# Altium footprint library ATMEGA4809-AFR.PcbLib: 2 footprints
Each footprint in its own frame and in the unit in brackets; x right, y up, seen from the top. Pads: shape width x height; smd on the part's side, far side on the other; paste and mask are expansions set on the pad; w line width, h text height; cw(c..) or ccw(c..) is an arc to the next point about the centre after c.
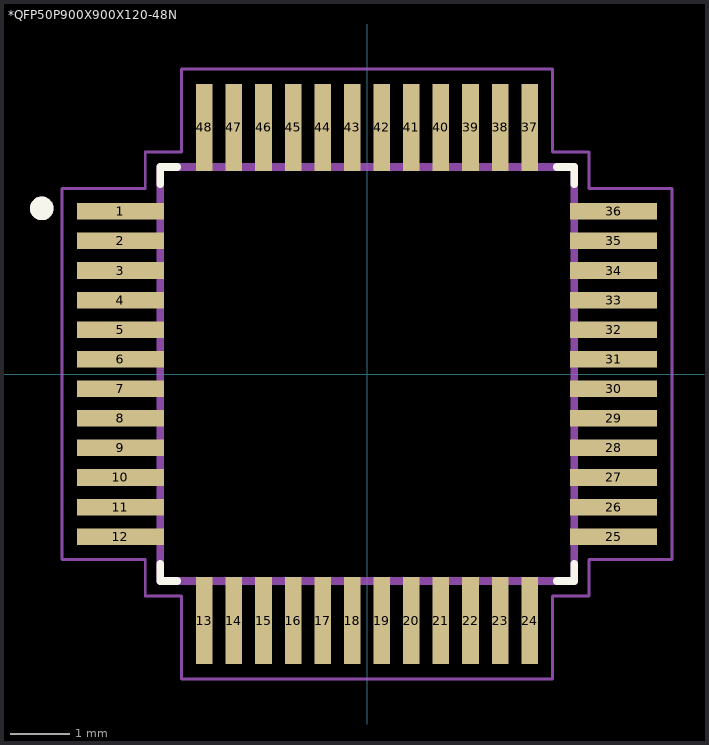
[diagram p0: the footprints below, top view; thin cyan lines are the x and y axes]

## *QFP50P900X900X120-48N [mm]
pads (48):
  rect 1.47x0.28 smd: 1(-4.17,2.75) 2(-4.17,2.25) 3(-4.17,1.75) 4(-4.17,1.25) 5(-4.17,0.75) 6(-4.17,0.25) 7(-4.17,-0.25) 8(-4.17,-0.75) 9(-4.17,-1.25) 10(-4.17,-1.75) 11(-4.17,-2.25) 12(-4.17,-2.75) 25(4.17,-2.75) 26(4.17,-2.25) 27(4.17,-1.75) 28(4.17,-1.25) 29(4.17,-0.75) 30(4.17,-0.25) 31(4.17,0.25) 32(4.17,0.75) 33(4.17,1.25) 34(4.17,1.75) 35(4.17,2.25) 36(4.17,2.75)
  rect 0.28x1.47 smd: 13(-2.75,-4.17) 14(-2.25,-4.17) 15(-1.75,-4.17) 16(-1.25,-4.17) 17(-0.75,-4.17) 18(-0.25,-4.17) 19(0.25,-4.17) 20(0.75,-4.17) 21(1.25,-4.17) 22(1.75,-4.17) 23(2.25,-4.17) 24(2.75,-4.17) 37(2.75,4.17) 38(2.25,4.17) 39(1.75,4.17) 40(1.25,4.17) 41(0.75,4.17) 42(0.25,4.17) 43(-0.25,4.17) 44(-0.75,4.17) 45(-1.25,4.17) 46(-1.75,4.17) 47(-2.25,4.17) 48(-2.75,4.17)
Top Overlay:
  circle w0.2: c-5.5,2.8 r0.1
  lines w0.127: -3.5,-3.21 -3.5,-3.5 -3.21,-3.5 ; -3.5,3.21 -3.5,3.5 -3.21,3.5 ; 3.21,-3.5 3.5,-3.5 3.5,-3.21 ; 3.21,3.5 3.5,3.5 3.5,3.21
Mechanical 4:
  circle w0.2: c-5.5,2.8 r0.1
  circle w0.2: c-5.5,2.8 r0.1
  lines w0.127: -3.5,-3.5 3.5,-3.5 ; -3.5,-3.5 -3.5,3.5 ; -3.5,-3.5 3.5,-3.5 ; -3.5,-3.5 -3.5,3.5 ; -3.5,3.5 3.5,3.5 ; -3.5,3.5 3.5,3.5 ; 3.5,-3.5 3.5,3.5 ; 3.5,-3.5 3.5,3.5
Mechanical 16:
  lines w0.05: -5.16,-3.14 -5.16,3.14 -3.75,3.14 -3.75,3.75 -3.14,3.75 -3.14,5.16 3.14,5.16 3.14,3.75 3.75,3.75 3.75,3.14 5.16,3.14 5.16,-3.14 3.75,-3.14 3.75,-3.75 3.14,-3.75 3.14,-5.16 -3.14,-5.16 -3.14,-3.75 -3.75,-3.75 -3.75,-3.14 -5.16,-3.14

## PCBComponent_1 [mm]